# Altium footprint library EMRT MAIN CONTROLLER.PcbLib: 35 footprints (part 3 of 3)
Each footprint in its own frame and in the unit in brackets; x right, y up, seen from the top. Pads: shape width x height; smd on the part's side, far side on the other; paste and mask are expansions set on the pad; w line width, h text height; cw(c..) or ccw(c..) is an arc to the next point about the centre after c.
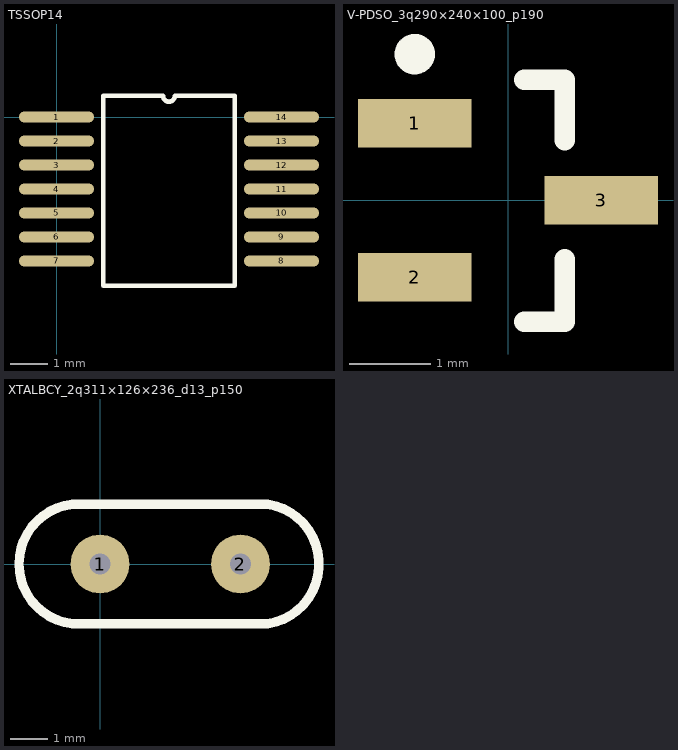
[diagram p2: the footprints below, top view; thin cyan lines are the x and y axes]

## TSSOP14 [mil]
pads (14):
  oval 80x12 smd: 1(0,0) 2(0,-25.59) 3(0,-51.18) 4(0,-76.77) 5(0,-102.36) 6(0,-127.95) 7(0,-153.54) 8(240,-153.54) 9(240,-127.95) 10(240,-102.36) 11(240,-76.77) 12(240,-51.18) 13(240,-25.59) 14(240,0)
Top Overlay:
  lines w5: 50,-180 190,-180 190,22.8 126.32,22.8 cw(c119.92,22.8) 113.52,22.8 50,22.8 50,-180

## V-PDSO_3q290×240×100_p190 [mm] "SOT23, 3-Leads, Body 3.0x2.5mm (max), Pitch 0.95mm, IPC Medium Density"
height 1.1
pads (3):
  rect 1.4x0.6 smd: 1(-1.15,0.95) 2(-1.15,-0.95) 3(1.15,0)
Top Overlay:
  circle w0.25: c-1.15,1.8 r0.125
  lines w0.254: 0.2,-1.5 0.7,-1.5 0.7,-0.727 ; 0.2,1.487 0.7,1.487 0.7,0.737
3D body: height 1.3, standoff 0, extent -1.4,-1.437 1.4,1.463

## XTALBCY_2q311×126×236_d13_p150 [mil]
height 20
pads (2):
  round 62 hole 22: 1(0,0) 2(148,0)
Top Overlay:
  lines w10: -29,-63 cw(c-22,0) -29,63 177,63 cw(c167,0) 177,-63 -29,-63